# Altium schematic symbol library Components - 23.10.24 - 13.35.SchLib: 1 symbol
Pins are listed as number, name and electrical type; pins without a type are passive.

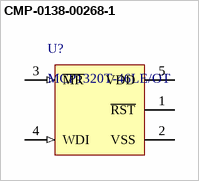
[diagram p0: symbol CMP-0138-00268-1]

## CMP-0138-00268-1
designator U?, comment MCP1320T-46LE/OT
Voltage Supervisor, 5-Pin SOT-23, Extended Temperature, Tape and Reel; PackageVersion: revBB, Aug-2009; DatasheetVersion: revB, Oct-2007; PackageReference: SOT-23-OT5; Code_IPC: SOT23-5; PackageDescription: 5-Lead Plastic Small Outline Transistor (OT) [SOT-23]
footprint SOT-23-OT5_M (SOT23, 5-Leads, Body 2.9x1.7mm, Pitch 0.95mm, Lead Span 2.8mm, IPC Low Density)
footprint SOT-23-OT5_N (SOT23, 5-Leads, Body 2.9x1.7mm, Pitch 0.95mm, Lead Span 2.8mm, IPC Medium Density)
footprint SOT-23-OT5_L (SOT23, 5-Leads, Body 2.9x1.7mm, Pitch 0.95mm, Lead Span 2.8mm, IPC High Density)
pins: 1 ~{RST} (oc), 2 VSS (power), 3 ~{MR} (in), 4 WDI (in), 5 VDD (power)